# EAGLE library part CON-7P (library Connectors)
7 Positions Header Connector
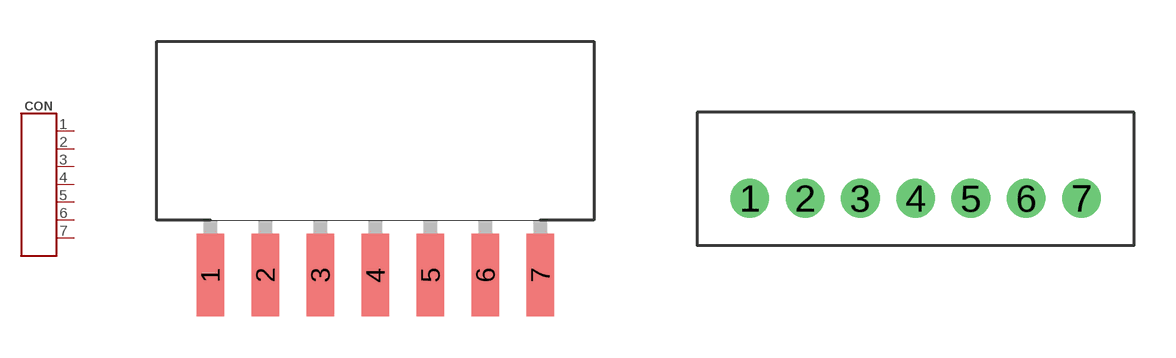
[diagram p14: symbol with the pads of B7B-PH-K-S_SIDE_MOUNT; footprints B7B-PH-K-S_SIDE_MOUNT, B7B-PH-K-S]

Designator prefix CON

## CON-7P-JST-PH-SIDE (CHIPDIP#: 9000325603; DIGIKEY#: 455-1709-ND; MANF: JST Sales America Inc.; MANF#: B7B-PH-K-S(LF)(SN); PITCH: 2mm)  [B7B-PH-K-S_SIDE_MOUNT]
1  1
2  2
3  3
4  4
5  5
6  6
7  7

## CON-7P-JST-PH (CHIPDIP: 9000325603; DIGIKEY#: 455-1709-ND; MANF: JST Sales America Inc; MANF#: B7B-PH-K-S(LF)(SN); PITCH: 2mm)  [B7B-PH-K-S]
Pads as for B7B-PH-K-S_SIDE_MOUNT

## CON-7P-DS1066 (MANF: Connfly electronic; MANF#: DS1066-7M)  [DS1066-07M]
Pads as for B7B-PH-K-S_SIDE_MOUNT

## CON-7P-DS1066-RA (MANF: Connfly electronic; MANF#: DS1066-7MR)  [DS1066-07MR]
Pads as for B7B-PH-K-S_SIDE_MOUNT

## CON-7P-JST-XA (LCSC#: C471522; MANF: JST Sales America; MANF#: B07B-XASK-1(LF)(SN); TYPE: JST-XA)  [B07B-XASK-1]
Pads as for B7B-PH-K-S_SIDE_MOUNT

## CON-7P-CWF-7R (MANF: KLS electronic; MANF#: CWF-7R; TYPE: DS1069-R)  [CWF-7R]
Pads as for B7B-PH-K-S_SIDE_MOUNT

## CON-7P-JST-XH (TYPE: JST-XH)  [B7B-XH-A]
Pads as for B7B-PH-K-S_SIDE_MOUNT

## Footprint B7B-PH-K-S_SIDE_MOUNT (pad centres in mm)
smd 1 x 3: 1 -6,-0.25; 2 -4,-0.25; 3 -2,-0.25; 4 0,-0.25; 5 2,-0.25; 6 4,-0.25; 7 6,-0.25

## Footprint B7B-PH-K-S (pad centres in mm)
drill 0.7 pad 1.4: 1 -6,-0.7; 2 -4,-0.7; 3 -2,-0.7; 4 0,-0.7; 5 2,-0.7; 6 4,-0.7; 7 6,-0.7

## Footprint DS1066-07M (pad centres in mm)
Datasheet <https://static.chipdip.ru/lib/502/DOC001502873.pdf> 3D model <https://grabcad.com/library/ph-connectors-1>
drill 0.7 pad 1.2 square: 1 -6,0
drill 0.7 pad 1.2: 2 -4,0; 3 -2,0; 4 0,0; 5 2,0; 6 4,0; 7 6,0

## Footprint DS1066-07MR (pad centres in mm)
Drawing <https://static.chipdip.ru/lib/439/DOC015439653.pdf>
drill 0.7 pad 1.3 square: 1 -6,0
drill 0.7 pad 1.3: 2 -4,0; 3 -2,0; 4 0,0; 5 2,0; 6 4,0; 7 6,0

## Footprint B07B-XASK-1 (pad centres in mm)
Datasheet <https://datasheet.lcsc.com/lcsc/1811011929_JST-Sales-America-B04B-XASK-1-LF-SN_C264994.pdf>
drill 1 pad 1.6 square: 1 -7.5,0
drill 1 pad 1.6: 2 -5,0; 3 -2.5,0; 4 0,0; 5 2.5,0; 6 5,0; 7 7.5,0

## Footprint CWF-7R (pad centres in mm)
drill 1 pad 1.5 square: 1 -7.5,0
drill 1 pad 1.5: 2 -5,0; 3 -2.5,0; 4 0,0; 5 2.5,0; 6 5,0; 7 7.5,0

## Footprint B7B-XH-A (pad centres in mm)
drill 1 pad 1.6 square: 1 -7.5,0
drill 1 pad 1.6: 2 -5,0; 3 -2.5,0; 4 0,0; 5 2.5,0; 6 5,0; 7 7.5,0